# Altium integrated library Cats_and_Dogs_Schematics_ESE516.IntLib: 76 symbols (part 1 of 2)
Pins are listed as number, name and electrical type; pins without a type are passive.

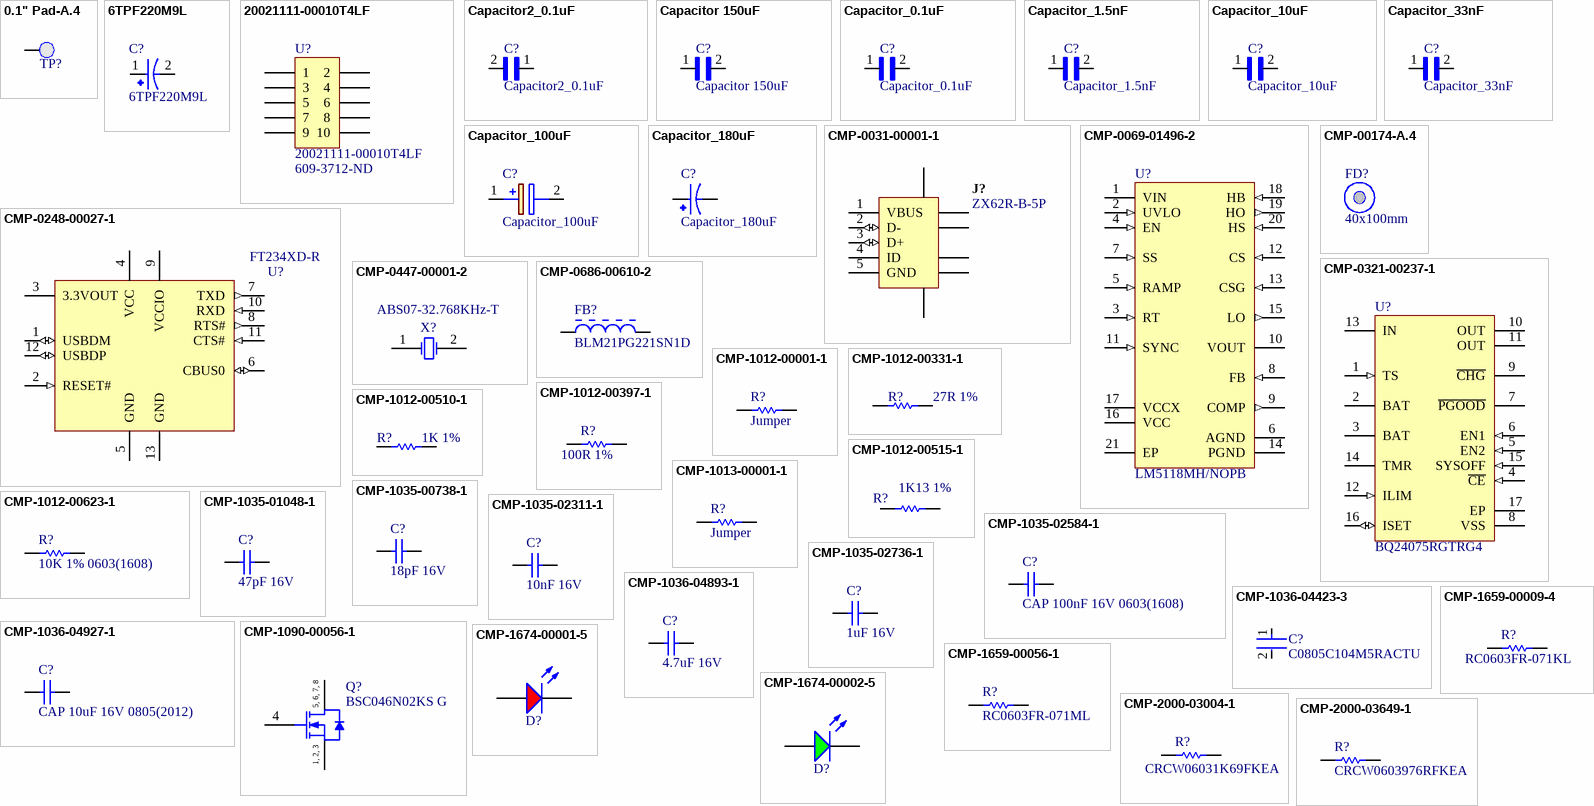
[diagram p0: symbols 0.1" Pad-A.4 to CMP-2000-03649-1]

## 0.1" Pad-A.4
designator TP?, comment 0.1" Pad  (value not drawn)  (no BOM)
footprint PCBComponent
pins: 1 PAD

## 6TPF220M9L
designator C?
MF: {'manufacturer': u'Panasonic'}; Value: *; Price: None; Availability: Unavailable; Package: None; MP: 6TPF220M9L
footprint CAP_6TPF220M9L
pins: 1, 2

## 20021111-00010T4LF
designator U?  Supplier Part Number 1: 609-3712-ND
CONN HEADER 10POS UNSHD VERT T/H; Manufacturer: Amphenol / FCI; Stack Height: 2.5 mm; Number of Positions / Contacts: 10; Brand: FCI; Pitch: 1.27 mm; Mounting Angle: Vertical; Current Rating: 10 A; Mating Post Length: 3.05 mm; Voltage Rating: 125 V; Manufacturer Part Number: 20021111-00010T4LF; Mounting Style: Through Hole; Product Category: Headers & Wire Housings; RoHS: Details; Series: Minitek; Product Type: Headers; Type: Unshrouded; Number of Positions: 10; Number of Rows: 2; Contact Plating: Gold; Housing Material: Plastic; Termination Style: Through Hole; Contact Material: Nickel; Packaging: Tube; Factory Pack Quantity: 93; Termination Post Length: 2.3 mm; ComponentLink1URL: https://datasheet.ciiva.com/1433/1079612-1433267.pdf; ComponentLink1Description: https://datasheet.ciiva.com/1433/1079612-1433267.pdf; ComponentLink2URL: https://datasheet.ciiva.com/409/20021111-409158.pdf; ComponentLink2Description: https://datasheet.ciiva.com/409/20021111-409158.pdf; ComponentLink3URL: https://datasheet.ciiva.com/5131/20021111-5131386.pdf; ComponentLink3Description: https://datasheet.ciiva.com/5131/20021111-5131386.pdf; ComponentLink4URL: https://datasheet.ciiva.com/9465/20021111-9465402.pdf; ComponentLink4Description: https://datasheet.ciiva.com/9465/20021111-9465402.pdf; Supplier 1: Digi-Key
footprint 20021111-00010T4LF (CONN HEADER 10POS UNSHD VERT T/H)
pins: 1, 2, 3, 4, 5, 6, 7, 8, 9, 10

## Capacitor2_0.1uF
designator C?
Cap Ceramic 0.1uF 16V X5R 10% SMD 0402 85°C Paper T/R; Manufacturer: KEMET; Manufacturer Part Number: C0402C104K4PACTU; Capacitance: 100nF; Dissipation Factor: 5%; Supplier 1: Digi-Key; Supplier Part Number 1: 399-C0402C104K4PAC7867TR-ND; RoHS: Yes; Category: Ceramic Capacitors; Stock 1: 2168149; Pricing 1: 10000=0.00873, 20000=0.00832 (USD); Mount: Surface Mount; Case/Package: 0402; Case Code (Metric): 1005; Case Code (Imperial): 0402; Contact Plating: Tin,Matte; Dielectric Material: Ceramic; Min Operating Temperature: -55°C; Max Operating Temperature: 85°C; Tolerance: 10%; Packaging: Tape and Reel; Voltage Rating: 16V; Package Quantity: 1; Voltage Rating (DC): 16V; Dielectric: X5R; Termination: SMD/SMT; Series: C; Construction: Flat; Length: 1mm; Width: 0.02inch; Height: 0.5mm; Thickness: 0.022inch; Depth: 0.5mm; Radiation Hardening: No; REACH SVHC: No SVHC; Lead Free: Lead Free; RoHS Compliant: Yes; ComponentLink1URL: https://datasheet.ciiva.com/26938/getdatasheetpartid-161478-26938210.pdf?src-supplier=Verical; ComponentLink1Description: https://datasheet.ciiva.com/26938/getdatasheetpartid-161478-26938210.pdf?src-supplier=Verical
footprint Capacitor_100nF
footprint Capacitor2_0.1uF
pins: 1, 2

## Capacitor 150uF
designator C?
Multilayer Ceramic Capacitor 150uF 4V 20% 1210 Emboss T/R; Manufacturer: Taiyo Yuden; Manufacturer Part Number: AMK325ABJ157MM-P; Supplier 1: Digi-Key; Supplier Part Number 1: 587-AMK325ABJ157MM-PCT-ND; RoHS: Yes; Category: Ceramic Capacitors; Stock 1: 2200; Pricing 1: 1=3.41000, 10=2.75600, 50=2.40540, 100=2.10470, 500=1.60356 (USD); RoHS Compliant: Yes
footprint Capacitor_150uF
pins: 1, 2

## Capacitor_0.1uF
designator C?
Cap Ceramic 0.1uF 25V X7R 5% SMD 0805 FlexiTerm 125°C Paper T/R; Manufacturer: Kyocera AVX; Manufacturer Part Number: 08053C104JAZ2A; Capacitance: 100nF; Supplier 1: Digi-Key; Supplier Part Number 1: 478-11877-1-ND; RoHS: Yes; Category: Ceramic Capacitors; Stock 1: 3816; Pricing 1: 1=0.37000, 10=0.25400, 50=0.17780, 100=0.15250, 500=0.11434, 1000=0.09656 (USD); Mount: Surface Mount; Case/Package: 0805; Number of Pins: 2; Case Code (Imperial): 0805; Case Code (Metric): 2012; Min Operating Temperature: -55°C; Max Operating Temperature: 125°C; Package Quantity: 4000; Voltage Rating: 25V; Voltage Rating (DC): 25V; Tolerance: 5%; Packaging: Tape and Reel; Dielectric: X7R; Termination: SMD/SMT; Features: Soft Termination; Series: FLEXITERM®; Construction: Flat; Length: 2.01mm; Width: 1.25mm; Height: 0.94mm; Thickness: 0.037inch; Depth: 1.25mm; RoHS Compliant: Yes; ComponentLink1URL: https://datasheet.ciiva.com/208/flexiterm-208638.pdf?src-supplier=Digi-Key; ComponentLink1Description: https://datasheet.ciiva.com/208/flexiterm-208638.pdf?src-supplier=Digi-Key; ComponentLink2URL: https://datasheet.ciiva.com/11504/flexiterm-11504238.pdf?src-supplier=Avnet; ComponentLink2Description: https://datasheet.ciiva.com/11504/flexiterm-11504238.pdf?src-supplier=Avnet; ComponentLink3URL: https://datasheet.ciiva.com/5423/cx7r-218113-5423549.pdf?src-supplier=Mouser; ComponentLink3Description: https://datasheet.ciiva.com/5423/cx7r-218113-5423549.pdf?src-supplier=Mouser
footprint Capacitor_0.1uF
pins: 1, 2

## Capacitor_1.5nF
designator C?
Manufacturer: TDK; Manufacturer Part Number: C2012C0G1H152J060AA; Dielectric Material: Ceramic; Capacitance: 1.5nF; Tolerance: 5%; Dielectric: C0G; Voltage Rating: 50V; Temperature Coefficient: 30ppm/°C; Supplier 1: Digi-Key; Supplier Part Number 1: 445-1331-1-ND; RoHS: Yes; Category: Ceramic Capacitors; Stock 1: 47415; Pricing 1: 1=0.19000, 10=0.13300, 50=0.07560, 100=0.06270, 500=0.04396, 1000=0.03639 (USD); Mount: Surface Mount; Case/Package: 0805; Case Code (Metric): 2012; Case Code (Imperial): 0805; Weight: 0.000194oz; Min Operating Temperature: -55°C; Max Operating Temperature: 125°C; Packaging: Tape and Reel; Voltage Rating (DC): 50V; Package Quantity: 1; Termination: SMD/SMT; Series: C; Construction: Flat; Voltage: 50V; Length: 2mm; Width: 0.049inch; Height: 0.6mm; Depth: 1.25mm; Thickness: 0.028inch; Radiation Hardening: No; REACH SVHC: No SVHC; Lead Free: Lead Free; RoHS Compliant: Yes; ComponentLink1URL: https://datasheet.ciiva.com/24217/c2012c0g1h152j060aa-264944-24217755.pdf?src-supplier=Mouser; ComponentLink1Description: https://datasheet.ciiva.com/24217/c2012c0g1h152j060aa-264944-24217755.pdf?src-supplier=Mouser; ComponentLink2URL: https://datasheet.ciiva.com/11788/0900766b80c1bb00-11788088.pdf?src-supplier=RSComponents; ComponentLink2Description: https://datasheet.ciiva.com/11788/0900766b80c1bb00-11788088.pdf?src-supplier=RSComponents; ComponentLink3URL: https://datasheet.ciiva.com/7151/1744655-7151856.pdf?src-supplier=Newark; ComponentLink3Description: https://datasheet.ciiva.com/7151/1744655-7151856.pdf?src-supplier=Newark; ComponentLink4URL: https://datasheet.ciiva.com/6250/tdkmlcccaprange-6250967.pdf?src-supplier=Digi-Key; ComponentLink4Description: https://datasheet.ciiva.com/6250/tdkmlcccaprange-6250967.pdf?src-supplier=Digi-Key; ComponentLink5URL: https://datasheet.ciiva.com/6250/tdkmlcccaprange-6250959.pdf?src-supplier=Digi-Key; ComponentLink5Description: https://datasheet.ciiva.com/6250/tdkmlcccaprange-6250959.pdf?src-supplier=Digi-Key; ComponentLink6URL: https://datasheet.ciiva.com/49048/1571323-49048791.pdf?src-supplier=Element14; ComponentLink6Description: https://datasheet.ciiva.com/49048/1571323-49048791.pdf?src-supplier=Element14; ComponentLink7URL: https://datasheet.ciiva.com/16498/e412-c-16498790.pdf?src-supplier=Future+Electronics; ComponentLink7Description: https://datasheet.ciiva.com/16498/e412-c-16498790.pdf?src-supplier=Future+Electronics; ComponentLink8URL: https://datasheet.ciiva.com/17487/e412-c-17487399.pdf?src-supplier=Avnet+Europe; ComponentLink8Description: https://datasheet.ciiva.com/17487/e412-c-17487399.pdf?src-supplier=Avnet+Europe
footprint Capacitor_1.5nF
pins: 1, 2

## Capacitor_10uF
designator C?
0805 35 V 10 uF ±10% Tolerance X5R Multilayer Ceramic Capacitor
footprint Capacitor_10uF
pins: 1, 2

## Capacitor_33nF
designator C?
TDK - CGA4J2C0G1H333J125AA. - CAP 0.033UF 50V C0G +/-5% SMD 0805; Capacitance: 33nF; Tolerance: 5%; Supplier 1: Digi-Key; Supplier Part Number 1: 445-6950-1-ND; Manufacturer: TDK; Manufacturer Part Number: CGA4J2C0G1H333J125AA; RoHS: Yes; Category: Ceramic Capacitors; Stock 1: 171034; Pricing 1: 1=0.36000, 10=0.24800, 50=0.17320, 100=0.14850, 500=0.11138, 1000=0.09405 (USD); Mount: Surface Mount; Case/Package: 0805; Case Code (Metric): 2012; Case Code (Imperial): 0805; Weight: 0.000194oz; Min Operating Temperature: -55°C; Max Operating Temperature: 125°C; Voltage Rating: 50V; Packaging: Tape and Reel; Voltage Rating (DC): 50V; Dielectric: C0G; Termination: SMD/SMT; Series: CGA; Package Quantity: 1; Resistor Type: Ceramic; Length: 2mm; Width: 0.049inch; Height: 1.25mm; Thickness: 0.057inch; Depth: 1.25mm; Ratings: AEC-Q200; Lead Free: Lead Free; REACH SVHC: No SVHC; RoHS Compliant: Yes; ComponentLink1URL: https://datasheet.ciiva.com/24217/cga4j2c0g1h333j125aa-265991-24217624.pdf?src-supplier=Mouser; ComponentLink1Description: https://datasheet.ciiva.com/24217/cga4j2c0g1h333j125aa-265991-24217624.pdf?src-supplier=Mouser; ComponentLink2URL: https://datasheet.ciiva.com/22704/1807242-22704638.pdf?src-supplier=Element14; ComponentLink2Description: https://datasheet.ciiva.com/22704/1807242-22704638.pdf?src-supplier=Element14
footprint Capacitor_33nF
pins: 1, 2

## Capacitor_100uF
designator C?
Cap Tant Solid 100uF 10V D CASE 20% (7.3 X 4.3 X 2.8mm) Inward L SMD 7343-31 0.1 Ohm 125C T/R; Manufacturer: Vishay Sprague; Manufacturer Part Number: 593D107X0010D2TE3; ESR (Equivalent Series Resistance): 100mR; Ripple Current: 740mA; Leakage Current: 10uA; Polarity: Polar; Dissipation Factor: 6%; Supplier 1: Digi-Key; Supplier Part Number 1: 718-1100-1-ND; RoHS: Yes; Category: Tantalum Capacitors; Stock 1: 108; Pricing 1: 1=0.90000, 10=0.68800, 50=0.57140, 100=0.49200 (USD); Mount: Surface Mount,PCB; Case/Package: 2917; Number of Pins: 2; Case Code (Metric): 7343; Case Code (Imperial): 2917; Weight: 0.023634oz; Min Operating Temperature: -55°C; Max Operating Temperature: 125°C; Capacitance: 100uF; Tolerance: 20%; Voltage Rating: 10V; Package Quantity: 1; Packaging: Tape and Reel; Voltage Rating (DC): 10V; Termination: SMD/SMT; Voltage: 10V; Features: General Purpose; Series: TANTAMOUNT® 593D; Construction: Flat; Length: 7.3mm; Width: 0.169inch; Height: 3.1mm; Depth: 4.3mm; Height - Seated (Max): 0.122inch; Radiation Hardening: No; REACH SVHC: Unknown; Lead Free: Lead Free; RoHS Compliant: Yes; ComponentLink1URL: https://datasheet.ciiva.com/1463/1598570-1463805.pdf?src-supplier=Element14; ComponentLink1Description: https://datasheet.ciiva.com/1463/1598570-1463805.pdf?src-supplier=Element14; ComponentLink2URL: https://datasheet.ciiva.com/260/593d-260241.pdf?src-supplier=Digi-Key; ComponentLink2Description: https://datasheet.ciiva.com/260/593d-260241.pdf?src-supplier=Digi-Key; ComponentLink3URL: https://datasheet.ciiva.com/260/593d-260242.pdf?src-supplier=Digi-Key; ComponentLink3Description: https://datasheet.ciiva.com/260/593d-260242.pdf?src-supplier=Digi-Key; ComponentLink4URL: https://datasheet.ciiva.com/260/593d-260243.pdf?src-supplier=Digi-Key; ComponentLink4Description: https://datasheet.ciiva.com/260/593d-260243.pdf?src-supplier=Digi-Key; ComponentLink5URL: https://datasheet.ciiva.com/3004/593d-3004057.pdf?src-supplier=Avnet; ComponentLink5Description: https://datasheet.ciiva.com/3004/593d-3004057.pdf?src-supplier=Avnet; ComponentLink6URL: https://datasheet.ciiva.com/12882/593d-239975-12882744.pdf?src-supplier=Mouser; ComponentLink6Description: https://datasheet.ciiva.com/12882/593d-239975-12882744.pdf?src-supplier=Mouser; ComponentLink7URL: https://datasheet.ciiva.com/22644/593d-22644537.pdf?src-supplier=Element14; ComponentLink7Description: https://datasheet.ciiva.com/22644/593d-22644537.pdf?src-supplier=Element14; ComponentLink8URL: https://datasheet.ciiva.com/46382/1910926-46382106.pdf?src-supplier=Element14; ComponentLink8Description: https://datasheet.ciiva.com/46382/1910926-46382106.pdf?src-supplier=Element14; ComponentLink9URL: https://datasheet.ciiva.com/15163/getdatasheetpartid-88232-15163238.pdf?src-supplier=Verical; ComponentLink9Description: https://datasheet.ciiva.com/15163/getdatasheetpartid-88232-15163238.pdf?src-supplier=Verical; ComponentLink10URL: https://datasheet.ciiva.com/16632/593d-16632317.pdf?src-supplier=Avnet+Europe; ComponentLink10Description: https://datasheet.ciiva.com/16632/593d-16632317.pdf?src-supplier=Avnet+Europe
footprint Capacitor_100uF
pins: 1 +, 2 -

## Capacitor_180uF
designator C?
Cap Aluminum Polymer 180uF 20VDC 20%( 8 X 6.9mm) SMD 0.025 Ohm 3200mA 5000h 105C T/R; Manufacturer: Panasonic; Manufacturer Part Number: 20SVPF180M; Ripple Current: 3.2A; Voltage Rating: 20V; ESR (Equivalent Series Resistance): 25mR; Polarity: Polar; Leakage Current: 720uA; Life (Hours): 5000Hour; Dissipation Factor: 12%; Supplier 1: Digi-Key; Supplier Part Number 1: P16499CT-ND; RoHS: Yes; Category: Aluminum Electrolytic Capacitors; Pricing 1: 1=1.64000, 10=1.29500, 50=1.12220, 100=0.97120, 500=0.73376 (USD); Mount: Surface Mount; Case/Package: Radial; Number of Pins: 7; Min Operating Temperature: -55°C; Max Operating Temperature: 105°C; Capacitance: 180uF; Tolerance: 20%; Ripple Current (AC): 3.2A; Packaging: Tape and Reel; Voltage Rating (DC): 20V; Package Quantity: 1000; Termination: SMD/SMT; Voltage: 20V; Diameter: 8mm; Length: 6.9mm; Height: 6.9mm; Height - Seated (Max): 0.276inch; REACH SVHC: No SVHC; Lead Free: Lead Free; RoHS Compliant: Yes; ComponentLink1URL: https://datasheet.ciiva.com/24071/svpf-os-262415-24071279.pdf?src-supplier=Mouser; ComponentLink1Description: https://datasheet.ciiva.com/24071/svpf-os-262415-24071279.pdf?src-supplier=Mouser; ComponentLink2URL: https://datasheet.ciiva.com/22746/1734360-22746207.pdf?src-supplier=Element14; ComponentLink2Description: https://datasheet.ciiva.com/22746/1734360-22746207.pdf?src-supplier=Element14; ComponentLink3URL: https://datasheet.ciiva.com/24416/svpf-series-datasheet-24416538.pdf?src-supplier=Onlinecomponents.com; ComponentLink3Description: https://datasheet.ciiva.com/24416/svpf-series-datasheet-24416538.pdf?src-supplier=Onlinecomponents.com
footprint Capacitor_180uF
pins: 1, 2

## CMP-0031-00001-1
designator J?, comment ZX62R-B-5P
Connector; USBMicro-B,Reverse type, SMT; 5 Position; Right Angle; Manufacturer: Hirose; DatasheetVersion: 08/2010; Operating Temperature: -30 to 85 degC; Mounting Technology: Surface Mount; PartNumber: ZX62R-B-5P; PackageReference: ZX62R-B-5P; ComponentLink2URL: http://www.hirose.co.jp/cataloge_hp/e24200011.pdf; ComponentLink1URL: http://www.hirose.com/â€Ž; ComponentLink2Description: Datasheet; PackageDescription: 5-Pin USB Micro-B R/A Connector; ComponentLink1Description: Manufacturer URL; Manufacturer Part Number: ZX62R-B-5P
footprint HIRO-ZX62R-B-5P_V (USB Micro-B R/A Connector)
pins: 1 VBUS (power), 2 D- (io), 3 D+ (io), 4 ID, 5 GND (power), 6 SHLD, 7 SHLD, 8 SHLD, 9 SHLD, 10 SHLD, 11 SHLD

## CMP-0069-01496-2
designator U?, comment LM5118MH/NOPB
Wide Voltage Range Buck-Boost Controller, 20-pin TSSOP-EP, Pb-Free; Manufacturer: National Semiconductor; Manufacturer: TI National Semiconductor; CompType: Switcher; PackageTopMarking: NSUZXYTT*LM5118*MH; PowerWise: Y; PackageVersion: revC, Jul-2006; ComponentLink3Description: MXA20A Package Page; RoHS: Y; ComponentLink1Description: LM5118 Datasheet; PackageDescription: Molded TSSOP, Jedec, 6.5 x 4.4 x 0.9mm Body, 20 Lead, 0.65mm Pitch, Exposed Pad; ComponentLink1URL: http://www.national.com/ds/LM/LM5118.pdf; ComponentLink2URL: http://www.national.com/pf/LM/LM5118.html; Code_JEDEC: MO-153-ACT; PinCount: 20; RevisionNote: Component URLs added; DatasheetVersion: Jul-2009; ComponentLink3URL: http://www.national.com/packaging/folders/mxa20a.html; ComponentLink2Description: LM5118 Web Page; PackageReference: MXA20A; Manufacturer Part Number: LM5118MH/NOPB
footprint MXA20A_L (TSOP, 20-Leads, Body 6.5x4.4mm, Pitch 0.65mm, Thermal Pad, IPC High Density)
footprint MXA20A_N (TSOP, 20-Leads, Body 6.5x4.4mm, Pitch 0.65mm, Thermal Pad, IPC Medium Density)
footprint MXA20A_M (TSOP, 20-Leads, Body 6.5x4.4mm, Pitch 0.65mm, Thermal Pad, IPC Low Density)
pins: 1 VIN (power), 2 UVLO (in), 3 RT (in), 4 EN (in), 5 RAMP (in), 6 AGND (power), 7 SS (in), 8 FB (in), 9 COMP (out), 10 VOUT (power), 11 SYNC (in), 12 CS (in), 13 CSG (in), 14 PGND (power), 15 LO (out), 16 VCC (power), 17 VCCX (power), 18 HB (in), 19 HO (out), 20 HS (in), 21 EP (power)

## CMP-00174-A.4
designator FD?, comment 40x100mm  (no BOM)
Fiducial 40x100mm
footprint Fiducial_FT

## CMP-0248-00027-1
designator U?, comment FT234XD-R
FT234XD USB to BASIC UART IC, -40 to +85 degC, 12-Pin DFN, Pb-Free, Tape and Reel; Manufacturer: FTDI; PackageReference: DFN-12; PackageVersion: Feb-13; DatasheetVersion: ver 1.1, Feb-2013; ComponentLink1URL: http://www.ftdichip.com/; PartNumber: FT234XD-R; ComponentLink2URL: http://www.ftdichip.com/Support/Documents/DataSheets/ICs/DS_FT234XD.pdf; ComponentLink1Description: Manufacturer URL; PackageDescription: 12-Pin Dual Flat No-Lead, 3 x 3 mm Body, 0.45 mm Pitch, Exposed Pad; ComponentLink2Description: Datasheet; Manufacturer Part Number: FT234XD-R
footprint DFN-12_V (SON, 12-Leads, Body 3x3mm, Pitch 0.45mm, Thermal Pad 2.5x1.6mm)
pins: 1 USBDM (io) "USB Data Signal Minus.", 2 RESET# (in) "Reset input (active low).", 3 3.3VOUT (power) "3.3V output at 50mA. May be used to power VCCIO. When VCC is 3.3V; pin 3 is an input pin and should be connected to pin 4.", 4 VCC (power) "5 V (or 3.3V) supply to IC", 5 GND (power) "0V Ground input.", 6 CBUS0 (io) "Configurable CBUS I/O Pin. Function of this pin is configured in the device MTP memory. The default configuration is TXDEN.", 7 TXD (out) "Transmit Asynchronous Data Output.", 8 RTS# (out) "Request to Send Control Output / Handshake Signal.", 9 VCCIO (power) "1.8V - 3.3V supply for the IO cells", 10 RXD (in) "Receiving Asynchronous Data Input.", 11 CTS# (in) "Clear To Send Control Input / Handshake Signal.", 12 USBDP (io) "USB Data Signal Plus.", 13 GND (power) "0V Ground input."

## CMP-0321-00237-1
designator U?, comment BQ24075RGTRG4
USB-Friendly Li-Ion Battery Charger and Power-Path Management IC, Vout 5.5 V, 4.3 V, -40 to 85 degC, 16-pin QFN (RGT), Green (RoHS & no Sb/Br); Manufacturer: Texas Instruments; Li-Ion: N; SubFamily: Battery Charge Management; Vin(Min)(V): 4.3; ComponentLink1URL: http://www.ti.com/general/docs/lit/getliterature.tsp?genericPartNumber=BQ24075&fileType=pdf; Over Voltage Protection: N; PackageDescription: 16-Pin Plastic Quad Flat No-Lead, 3 x 3 mm Body, 0.5 mm Pitch, 1.7 x 1.7 mm Exposed Pad; NiMH: N; Li-Polymer: N; Eco-Plan: Green (RoHS & no Sb/Br); Code_JEDEC: MO-220; Lead Acid: N; PartNumber: BQ24075RGTRG4; ComponentLink1Description: Datasheet; Mounting Technology: Surface Mount; PackageVersion: revH, Oct-2011; PackageReference: RGT16-1700X1700TP; NiCd: N; DatasheetVersion: SLUS810G; Manufacturer Part Number: BQ24075RGTRG4
footprint RGT16-1700X1700TP (QFN, 16-Leads, Body 3x3mm, Pitch 0.5mm, Thermal Pad 1.7x1.7mm, TI Recommended)
pins: 1 TS (in) "External NTC Thermistor Input. Connect the TS input to the NTC thermistor in the battery pack. TS monitors a 10kohm NTC thermistor. For applications that do not utilize the TS function, connect a 10kohm fixed resistor from (See Datasheet)", 2 BAT (power) "Charge Power Stage Output and Battery Voltage Sense Input. Connect BAT to the positive terminal of the battery. Bypass BAT to VSS with a 4.7 uF to 47 uF ceramic capacitor.", 3 BAT (power) "Charge Power Stage Output and Battery Voltage Sense Input. Connect BAT to the positive terminal of the battery. Bypass BAT to VSS with a 4.7 uF to 47 uF ceramic capacitor.", 4 ~{CE} (in) "Charge Enable Active-Low Input. Connect C\E\ to a high logic level to place the battery charger in standby mode. In standby mode, OUT is active and battery supplement mode is still available. Connect C\E\ to a low logic (See Datasheet)", 5 EN2 (in) "Input Current Limit Configuration Inputs. Use EN2 control the maximum input current and enable USB compliance. See Table 2 for the description of the operation states. EN2 are internally pulled down with ?285 kohm. Do not (See Datasheet)", 6 EN1 (in) "Input Current Limit Configuration Inputs. Use EN1 control the maximum input current and enable USB compliance. See Table 2 for the description of the operation states. EN1 are internally pulled down with ?285 kohm. Do not (See Datasheet)", 7 ~{PGOOD} (hiz) "Open-drain Power Good Status Indication Output. P\G\O\O\D\ pulls to VSS when a valid input source is detected. P\G\O\O\D\ is high-impedance when the input power is not within specified limits. Connect P\G\O\O\D\ to the (See Datasheet)", 8 VSS (power) "Ground. Connect to the thermal pad and to the ground rail of the circuit.", 9 ~{CHG} (hiz) "Open-Drain Charging Status Indication Output. C\H\G\ pulls to VSS when the battery is charging. C\H\G\ is high impedance when charging is complete and when charger is disabled. Connect C\H\G\ to the desired logic voltage (See Datasheet)", 10 OUT (power) "System Supply Output. OUT provides a regulated output when the input is below the OVP threshold and above the regulation voltage. When the input is out of the operation range, OUT is connected to VBAT except when SYSOFF is (See Datasheet)", 11 OUT (power) "System Supply Output. OUT provides a regulated output when the input is below the OVP threshold and above the regulation voltage. When the input is out of the operation range, OUT is connected to VBAT except when SYSOFF is (See Datasheet)", 12 ILIM (in) "Adjustable Current Limit Programming Input. Connect a 1100 ohm to 8 kohm resistor from ILIM to VSS to program the maximum input current (EN2=1, EN1=0). The input current includes the system load and the battery charge (See Datasheet)", 13 IN (power) "Input Power Connection. Connect IN to the external DC supply (AC adapter or USB port). The input operating range is 4.35V to 6.6V (bq24072, bq24073, bq24075, and bq24079) or 4.35V to 10.5V (bq23074). The input can accept (See Datasheet)", 14 TMR "Timer Programming Input. TMR controls the pre-charge and fast-charge safety timers. Connect TMR to VSS to disable all safety timers. Connect a 18 kohm to 72 kohm resistor between TMR and VSS to program the timers a desired (See Datasheet)", 15 SYSOFF (in) "System Enable Input. Connect SYSOFF high to turn off the FET connecting the battery to the system output. When an adapter is connected, charging is also disabled. Connect SYSOFF low for normal operation. SYSOFF is internally (See Datasheet)", 16 ISET (io) "Fast Charge Current Programming Input. Connect a 590 ohm to 3 kohm resistor from ISET to VSS to program the fast charge current level. Charging is disabled if ISET is left unconnected. While charging, the voltage at ISET (See Datasheet)", 17 EP (power) "There is an internal electrical connection between the exposed thermal pad and the VSS pin of the device. The thermal pad must be connected to the same potential as the VSS pin on the printed circuit board. Do not use the (See Datasheet)"

## CMP-0447-00001-2
designator X?, comment ABS07-32.768KHz-T
Crystal, 32.768 kHz, 12.5 pF, -40 to 85 degC, SMD Low Profile 3.2 x 1.5 x 0.9 mm, Tape and Reel; Manufacturer: Abracon; Q Value (Type): 30000; Operation Mode: Flexural Mode (Tuning Fork); Shunt Capacitance (C0): 0.9 to 1.2 pF; Load Capacitance (CL): 12.5 pF; Frequency Tolerance @+25degC: +/- 20 ppm; Drive Level (Type): 0.1 uW; Equivalent Series Resistance (R1): 70 Kohm; Insulation Resistance (Min): 500 Mohm; ComponentLink3URL: http://www.abracon.com/Resonators/ABS07.pdf; PackageDescription: 2-Pin Hand Drawn, Body 3.2x1.5mm, Pitch 2.5mm; Operating Temperature: -40 to 85 degC; ComponentLink2URL: http://www.abracon.com/Resonators/ABS07.pdf; PackageReference: ABS07-2; ComponentLink3Description: Package Specification; ComponentLink1Description: Manufacturer URL; DatasheetVersion: 04.03.13; Mounting Technology: Surface Mount; ComponentLink2Description: Datasheet; ComponentLink1URL: http://www.abracon.com/; PartNumber: ABS07-32.768KHz-T; Packing: Tape and Reel; Frequency: 32.768 kHz; Manufacturer Part Number: ABS07-32.768KHZ-T
footprint ABRA-ABS07-2_V (Hand Drawn, 2-Leads, Body 3.2x1.5mm, Pitch 2.5mm)
pins: 1 X1, 2 X2

## CMP-0686-00610-2
designator FB?, comment BLM21PG221SN1D
Chip Ferrite Bead for Power Lines, 220 Ohm, 2000 mA, -55 to 125 degC, 2 x 1.25 x 1.05 mm SMD, Tape and Reel; Manufacturer: Murata; DC Resistance: 0.045 Ohm Max.; Impedance (at 100 MHz): 220 Ohm +/- 25%; Rated Current: 2000 mA; PartNumber: BLM21PG221SN1D; Mounting Technology: Surface Mount; DatasheetVersion: 08/2013; ComponentLink3URL: http://www.murata.com/products/catalog/pdf/c31e.pdf; ComponentLink1URL: http://www.murata.com/; ComponentLink1Description: Manufacturer URL; ComponentLink2URL: http://www.murata.com/products/catalog/pdf/c31e.pdf; PackageDescription: 2-Pin Chip, Body 2 x 1.25 mm; ComponentLink3Description: Package Specification; Operating Temperature Range: -55 to 125 degC; Packing: Tape and Reel; ComponentLink2Description: Datasheet; PackageReference: BLM21_H1050-2; Manufacturer Part Number: BLM21PG221SN1D
footprint MURA-BLM21-B20-CHIP-2_V1 (Chip Ferrite Bead, 2-Leads, Body 2x1.25mm, Height 1.05mm, 18um Land Pad Thickness, 2A Rated Current)
footprint MURA-BLM21-B20-CHIP-2_V2 (Chip Ferrite Bead, 2-Leads, Body 2x1.25mm, Height 1.05mm, 35/70um Land Pad Thickness, 2A Rated Current)
pins: 1, 2

## CMP-1012-00001-1
designator R?, comment Jumper
Jumper 0603 (1608 Metric); Manufacturer: Vishay Dale; Manufacturer Part Number: CRCW06030000Z0EC; Manufacturer: Yageo; Manufacturer Part Number: RC0603JR-070RL; Manufacturer: Vishay; Manufacturer Part Number: CRCW0603-0000Z0EA; Manufacturer Part Number: CRCW06030000Z0TA; Manufacturer: Bourns; Manufacturer Part Number: CR0603-J/-000ELF; Manufacturer Part Number: CRCW06030000Z0EB; Manufacturer: Panasonic; Manufacturer Part Number: ERJ-3GEY0R00V; Case-Metric: 1608; Value: 0.00 Ohm; Power: None; Case-EIA: 0603; Technology: SMT; Tolerance: None
footprint RESC0603(1608)_N (Chip Resistor, Body 1.6x0.8mm, IPC Medium Density)
footprint RESC0603(1608)_L (Chip Resistor, Body 1.6x0.8mm, IPC High Density)
footprint RESC0603(1608)_M (Chip Resistor, Body 1.6x0.8mm, IPC Low Density)
pins: 1, 2
1 alternate drawing of the same symbol

## CMP-1012-00331-1
designator R?, comment 27R 1%
27R 0.1W 1% 0603 (1608 Metric)  SMD; Manufacturer: Vishay; Manufacturer Part Number: CRCW060327R0FKEB; Manufacturer: Yageo; Manufacturer Part Number: RC0603FR-0727RL; Manufacturer: Bourns; Manufacturer Part Number: CR0603-FX-27R0ELF; Manufacturer: Vishay Dale; Manufacturer Part Number: CRCW060327R0FKTA; Manufacturer: Panasonic; Manufacturer Part Number: ERJ-3EKF27R0V; Manufacturer Part Number: CRCW060327R0FKEA; Case-EIA: 0603; Value: 27.00 Ohm; Case-Metric: 1608; Technology: SMT; Tolerance: 1 %; Power: 0.1 W
footprint RESC0603(1608)_N (Chip Resistor, Body 1.6x0.8mm, IPC Medium Density)
footprint RESC0603(1608)_M (Chip Resistor, Body 1.6x0.8mm, IPC Low Density)
footprint RESC0603(1608)_L (Chip Resistor, Body 1.6x0.8mm, IPC High Density)
pins: 1, 2
1 alternate drawing of the same symbol

## CMP-1012-00397-1
designator R?, comment 100R 1%
100R 0.1W 1% 0603 (1608 Metric)  SMD; Manufacturer: Vishay Dale; Manufacturer Part Number: CRCW0603100RFKTB; Manufacturer Part Number: CRCW0603100RFKTA; Manufacturer: Bourns; Manufacturer Part Number: CR0603-FX-1000ELF; Manufacturer Part Number: CRCW0603100RFKTC; Manufacturer Part Number: CRCW0603100RFKEC; Manufacturer Part Number: CRCW0603100RFKEA; Manufacturer Part Number: CRCW0603100RFKEB; Manufacturer: Panasonic; Manufacturer Part Number: ERJ3EKF1000V; Manufacturer: Yageo; Manufacturer Part Number: RC0603FR-07100RL; Value: 100.00 Ohm; Case-EIA: 0603; Case-Metric: 1608; Technology: SMT; Tolerance: 1 %; Power: 0.1 W
footprint RESC0603(1608)_M (Chip Resistor, Body 1.6x0.8mm, IPC Low Density)
footprint RESC0603(1608)_L (Chip Resistor, Body 1.6x0.8mm, IPC High Density)
footprint RESC0603(1608)_N (Chip Resistor, Body 1.6x0.8mm, IPC Medium Density)
pins: 1, 2
1 alternate drawing of the same symbol

## CMP-1012-00510-1
designator R?, comment 1K 1%
1K 0.1W 1% 0603 (1608 Metric)  SMD; Manufacturer: Vishay Dale; Manufacturer Part Number: CRCW06031K00FKEB; Manufacturer Part Number: CRCW06031K00FKTA; Manufacturer: Yageo; Manufacturer Part Number: RC0603FR-071KL; Manufacturer Part Number: CRCW06031K00FKEC; Manufacturer Part Number: CRCW06031K00FKTB; Manufacturer: Bourns; Manufacturer Part Number: CR0603-FX-1001ELF; Manufacturer: Panasonic; Manufacturer Part Number: ERJ3EKF1001V; Manufacturer Part Number: CRCW06031K00FKEA; Case-Metric: 1608; Case-EIA: 0603; Value: 1000.00 Ohm; Technology: SMT; Tolerance: 1 %; Power: 0.1 W
footprint RESC0603(1608)_M (Chip Resistor, Body 1.6x0.8mm, IPC Low Density)
footprint RESC0603(1608)_N (Chip Resistor, Body 1.6x0.8mm, IPC Medium Density)
footprint RESC0603(1608)_L (Chip Resistor, Body 1.6x0.8mm, IPC High Density)
pins: 1, 2
1 alternate drawing of the same symbol

## CMP-1012-00515-1
designator R?, comment 1K13 1%
1K13 0.1W 1% 0603 (1608 Metric)  SMD; Manufacturer: Vishay Dale; Manufacturer Part Number: CRCW06031K13FKTA; Manufacturer Part Number: CRCW06031K13FKTB; Manufacturer: Yageo; Manufacturer Part Number: RC0603FR-071K13L; Manufacturer: Bourns; Manufacturer Part Number: CR0603-FX-1131ELF; Manufacturer: Vishay; Manufacturer Part Number: CRCW06031K13FKEA; Manufacturer: Vishay Intertechnology; Manufacturer Part Number: CRCW06031K13FKEB; Manufacturer: Panasonic; Manufacturer Part Number: ERJ-3EKF1131V; Value: 1130.00 Ohm; Case-EIA: 0603; Case-Metric: 1608; Power: 0.1 W; Tolerance: 1 %; Technology: SMT
footprint RESC0603(1608)_L (Chip Resistor, Body 1.6x0.8mm, IPC High Density)
footprint RESC0603(1608)_M (Chip Resistor, Body 1.6x0.8mm, IPC Low Density)
footprint RESC0603(1608)_N (Chip Resistor, Body 1.6x0.8mm, IPC Medium Density)
pins: 1, 2
1 alternate drawing of the same symbol

## CMP-1012-00623-1
designator R?, comment 10K 1% 0603(1608)
10K 0.1W 1% 0603 (1608 Metric)  SMD; Manufacturer: Panasonic; Manufacturer Part Number: ERJ-3EKF1002V; Manufacturer: Vishay Dale; Manufacturer Part Number: CRCW060310K0FKTC; Manufacturer: Vishay; Manufacturer Part Number: CRCW060310K0FKEA; Manufacturer Part Number: CRCW060310K0FKTA; Manufacturer Part Number: CRCW060310K0FKEC; Manufacturer: Yageo; Manufacturer Part Number: RC0603FR-0710KL; Manufacturer Part Number: CRCW060310K0FKEB; Manufacturer: Bourns; Manufacturer Part Number: CR0603-FX-1002ELF; Manufacturer Part Number: CRCW060310K0FKTB; Value: 10000.00 Ohm; Case-EIA: 0603; Case-Metric: 1608; Power: 0.1 W; Tolerance: 1 %; Technology: SMT
footprint RESC0603(1608)_N (Chip Resistor, Body 1.6x0.8mm, IPC Medium Density)
footprint RESC0603(1608)_L (Chip Resistor, Body 1.6x0.8mm, IPC High Density)
footprint RESC0603(1608)_M (Chip Resistor, Body 1.6x0.8mm, IPC Low Density)
pins: 1, 2
1 alternate drawing of the same symbol

## CMP-1013-00001-1
designator R?, comment Jumper
Jumper 0805 (2012 Metric); Manufacturer: Vishay; Manufacturer Part Number: CRCW08050000Z0TA; Manufacturer: Vishay Dale; Manufacturer Part Number: CRCW08050000Z0EC; Manufacturer: Panasonic; Manufacturer Part Number: ERJ-6GEY0R00V; Manufacturer: Rohm; Manufacturer Part Number: MCR10EZPJ000; Manufacturer Part Number: CRCW08050000Z0EB; Manufacturer: Yageo; Manufacturer Part Number: RC0805JR-070RL; Manufacturer Part Number: CRCW08050000Z0EA; Manufacturer: Bourns; Manufacturer Part Number: CR0805-J/-000ELF; Case-EIA: 0805; Value: 0.00 Ohm; Tolerance: None; Case-Metric: 2012; Technology: SMT; Power: None
footprint RESC0805(2012)_N (Chip Resistor, Body 2.0x1.3mm, IPC Medium Density)
footprint RESC0805(2012)_M (Chip Resistor, Body 2.0x1.3mm, IPC Low Density)
footprint RESC0805(2012)_L (Chip Resistor, Body 2.0x1.3mm, IPC High Density)
pins: 1, 2
1 alternate drawing of the same symbol

## CMP-1035-00738-1
designator C?, comment 18pF 16V
CAP 18pF 16V ±5% 0603 (1608 Metric) Thickness 1mm SMD; Manufacturer: Kyocera AVX; Manufacturer Part Number: 0603YA180JAT2A; Manufacturer: Vishay Vitramon; Manufacturer Part Number: VJ0603A180JXJCW1BC; Manufacturer: KEMET; Manufacturer Part Number: C0603C180J4GACTU; Manufacturer Part Number: C0603C180J4GAC; Manufacturer Part Number: VJ0603A180JXJPW1BC; Tolerance: Â±5%; Case-EIA: 0603; Case-Metric: 1608; Max Thickness: 1 mm; Rated Voltage: 16 V; Value: 18pF; Technology: SMT
footprint CAPC0603(1608)100_N (Chip Capacitor, Body 1.6x0.8mm, Height 1.0mm, IPC Medium Density)
footprint CAPC0603(1608)100_M (Chip Capacitor, Body 1.6x0.8mm, Height 1.0mm, IPC Low Density)
footprint CAPC0603(1608)100_L (Chip Capacitor, Body 1.6x0.8mm, Height 1.0mm, IPC High Density)
pins: 1, 2
1 alternate drawing of the same symbol

## CMP-1035-01048-1
designator C?, comment 47pF 16V
CAP 47pF 16V ±0.5pF 0603 (1608 Metric) Thickness 1mm SMD; Manufacturer: KEMET; Manufacturer Part Number: C0603C470D4GAC; Manufacturer Part Number: C0603C470D4GACTU; Case-EIA: 0603; Case-Metric: 1608; Tolerance: Â±0.5pF; Technology: SMT; Value: 47pF; Rated Voltage: 16 V; Max Thickness: 1 mm
footprint CAPC0603(1608)100_L (Chip Capacitor, Body 1.6x0.8mm, Height 1.0mm, IPC High Density)
footprint CAPC0603(1608)100_N (Chip Capacitor, Body 1.6x0.8mm, Height 1.0mm, IPC Medium Density)
footprint CAPC0603(1608)100_M (Chip Capacitor, Body 1.6x0.8mm, Height 1.0mm, IPC Low Density)
pins: 1, 2
1 alternate drawing of the same symbol

## CMP-1035-02311-1
designator C?, comment 10nF 16V
CAP 10nF 16V ±10% 0603 (1608 Metric) Thickness 1mm SMD; Manufacturer: KEMET; Manufacturer Part Number: C0603C103K4RACTU; Manufacturer Part Number: C0603C103K4RACTM; Manufacturer: Vishay Vitramon; Manufacturer Part Number: VJ0603Y103KXJPW1BC; Manufacturer Part Number: VJ0603Y103KXJAP; Manufacturer Part Number: VJ0603Y103KXJAC; Manufacturer Part Number: C0603C103K4GAC; Manufacturer Part Number: VJ0603Y103KXJCW1BC; Manufacturer: Vishay; Manufacturer Part Number: VJ0603Y103KNJAO; Manufacturer Part Number: C0603C103K4RAC; Manufacturer: Yageo; Manufacturer Part Number: CC0603KRX7R7BB103; Case-EIA: 0603; Case-Metric: 1608; Tolerance: Â±10%; Rated Voltage: 16 V; Value: 10nF; Max Thickness: 1 mm; Technology: SMT
footprint CAPC0603(1608)100_L (Chip Capacitor, Body 1.6x0.8mm, Height 1.0mm, IPC High Density)
footprint CAPC0603(1608)100_M (Chip Capacitor, Body 1.6x0.8mm, Height 1.0mm, IPC Low Density)
footprint CAPC0603(1608)100_N (Chip Capacitor, Body 1.6x0.8mm, Height 1.0mm, IPC Medium Density)
pins: 1, 2
1 alternate drawing of the same symbol

## CMP-1035-02584-1
designator C?, comment CAP 100nF 16V 0603(1608)
CAP 100nF 16V ±10% 0603 (1608 Metric) Thickness 1mm SMD; Manufacturer: TDK; Manufacturer Part Number: C1608X7R1C104K; Manufacturer: Vishay; Manufacturer Part Number: VJ0603Y104KXJCW1BC; Manufacturer: Kyocera AVX; Manufacturer Part Number: 0603YC104KAT7A; Manufacturer Part Number: 0603YC104KAT9A; Manufacturer: Vishay Vitramon; Manufacturer Part Number: VJ0603Y104KXJPW1BC; Manufacturer Part Number: 0603YC104KAT2A; Manufacturer: KEMET; Manufacturer Part Number: C0603C104K4RACTU; Manufacturer Part Number: VJ0603Y104KNJAO; Manufacturer: Yageo; Manufacturer Part Number: CC0603KRX7R7BB104; Manufacturer Part Number: C0603C104K4RACTM; Manufacturer Part Number: VJ0603Y104KXJAP; Manufacturer Part Number: VJ0603Y104KXJAC; Manufacturer Part Number: CC0603KPX7R7BB104; Manufacturer Part Number: 0603YC104KAT4A; Manufacturer Part Number: C0603C104K4RAC; Tolerance: Â±10%; Case-EIA: 0603; Case-Metric: 1608; Technology: SMT; Max Thickness: 1 mm; Value: 100nF; Rated Voltage: 16 V
footprint CAPC0603(1608)100_N (Chip Capacitor, Body 1.6x0.8mm, Height 1.0mm, IPC Medium Density)
footprint CAPC0603(1608)100_L (Chip Capacitor, Body 1.6x0.8mm, Height 1.0mm, IPC High Density)
footprint CAPC0603(1608)100_M (Chip Capacitor, Body 1.6x0.8mm, Height 1.0mm, IPC Low Density)
pins: 1, 2
1 alternate drawing of the same symbol

## CMP-1035-02736-1
designator C?, comment 1uF 16V
CAP 1uF 16V ±5% 0603 (1608 Metric) Thickness 1mm SMD; Manufacturer: Kyocera AVX; Manufacturer Part Number: 0603YC105JAT2A; Case-Metric: 1608; Case-EIA: 0603; Tolerance: Â±5%; Technology: SMT; Max Thickness: 1 mm; Rated Voltage: 16 V; Value: 1uF
footprint CAPC0603(1608)100_N (Chip Capacitor, Body 1.6x0.8mm, Height 1.0mm, IPC Medium Density)
footprint CAPC0603(1608)100_L (Chip Capacitor, Body 1.6x0.8mm, Height 1.0mm, IPC High Density)
footprint CAPC0603(1608)100_M (Chip Capacitor, Body 1.6x0.8mm, Height 1.0mm, IPC Low Density)
pins: 1, 2
1 alternate drawing of the same symbol

## CMP-1036-04423-3
designator C?, comment C0805C104M5RACTU
CAP CER 0.1UF 50V X7R 0805; Manufacturer: KEMET; Manufacturer: Kyocera AVX; Manufacturer Part Number: 08055C104MAT2A; Manufacturer Part Number: 08055C104MAT4A; Manufacturer Part Number: C0805C104M5RACTM; Manufacturer: Vishay Vitramon; Manufacturer Part Number: VJ0805V104MXAPW1BC; Manufacturer Part Number: 08055C104MAT7A; Manufacturer: TDK; Manufacturer Part Number: C2012X7R1H104M/0.85; Manufacturer: Yageo; Manufacturer Part Number: CC0805MRY5V9BB104; Manufacturer Part Number: VJ0805V104MXACW1BC; Tolerance: 0.2; Temperature Coefficient: 30ppm/°C; Material: Ceramic; Capacitance: 0.10 μF; Value: 0.10 μF; Temperature: -55°C to +125°C; RoHS: TRUE; Temperature Range Low: -55°C; Device Class L3: Ceramic Capacitors; Manufacturer Part Number: C0805C104M5RACTU; Octopart: https://octopart.com/c0805c104m5ractu-kemet-129379; Ipc Land Pattern Name: CAPC200125X78; Mouser Description: Multilayer Ceramic Capacitors MLCC - SMD/SMT 50volts 0.1uF X7R 20%; Temperature Range High: +125°C; Package: C0805C-DN; Temperature Characteristic: X7R; Automotive: No; ComponentLink2URL: https://content.kemet.com/datasheets/KEM_C1003_C0G_SMD.pdf; Device Class L1: Passive Components; ComponentLink2Description: Datasheet; Device Class L2: Capacitors; Voltage Rating: 50 V; Digikey Description: CAP CER 0.1UF 50V X7R 0805; Lead Free: Yes; Height: 0.88mm; Category: Cap; Manufacturer Part Number: C0805C104M5RAC
footprint FP-C0805C-DN-MFG
footprint FP-C0805C-DN-IPC_C
footprint FP-C0805C-DN-IPC_B
footprint FP-C0805C-DN-IPC_A
pins: 1, 2

## CMP-1036-04893-1
designator C?, comment 4.7uF 16V
CAP 4.7uF 16V -20% to +80% 0805 (2012 Metric) Thickness 1.45mm SMD; Manufacturer: KEMET; Manufacturer Part Number: C0805C475Z4VAC; Manufacturer: Yageo; Manufacturer Part Number: CC0805ZRY5V7BB475; Manufacturer: TDK; Manufacturer Part Number: C2012Y5V1C475Z/1.25; Manufacturer: Vishay Vitramon; Manufacturer Part Number: VJ0805V475ZXJTW1BC; Manufacturer Part Number: C2012Y5V1C475Z/0.85; Manufacturer Part Number: CC0805ZKY5V7BB475; Case-Metric: 2012; Case-EIA: 0805; Max Thickness: 1.45 mm; Value: 4.7uF; Rated Voltage: 16 V; Tolerance: -20% to +80%; Technology: SMT
footprint CAPC0805(2012)145_N (Chip Capacitor, Body 2.0x1.2mm, Height 1.45mm, IPC Medium Density)
footprint CAPC0805(2012)145_M (Chip Capacitor, Body 2.0x1.2mm, Height 1.45mm, IPC Low Density)
footprint CAPC0805(2012)145_L (Chip Capacitor, Body 2.0x1.2mm, Height 1.45mm, IPC High Density)
pins: 1, 2
1 alternate drawing of the same symbol

## CMP-1036-04927-1
designator C?, comment CAP 10uF 16V 0805(2012)
CAP 10uF 16V ±10% 0805 (2012 Metric) Thickness 1.45mm SMD; Manufacturer: Kyocera AVX; Manufacturer Part Number: 0805YD106KAT2A; Manufacturer: KEMET; Manufacturer Part Number: C0805C106K4PACTU; Manufacturer: TDK; Manufacturer Part Number: C2012X5R1C106K/0.85; Manufacturer Part Number: C2012X6S1C106K; Manufacturer Part Number: C0805C106K4PAC; Manufacturer Part Number: 0805YD106KAT4A; Manufacturer Part Number: C2012X5R1C106K/1.25; Case-EIA: 0805; Tolerance: Â±10%; Case-Metric: 2012; Rated Voltage: 16 V; Technology: SMT; Value: 10uF; Max Thickness: 1.45 mm
footprint CAPC0805(2012)145_L (Chip Capacitor, Body 2.0x1.2mm, Height 1.45mm, IPC High Density)
footprint CAPC0805(2012)145_M (Chip Capacitor, Body 2.0x1.2mm, Height 1.45mm, IPC Low Density)
footprint CAPC0805(2012)145_N (Chip Capacitor, Body 2.0x1.2mm, Height 1.45mm, IPC Medium Density)
pins: 1, 2
1 alternate drawing of the same symbol

## CMP-1090-00056-1
designator Q?, comment BSC046N02KS G
N-Channel OptiMOS 2 Power-Transistor, 20 V VDS, 80 A ID, -55 to 150 degC, PG-TDSON-8-1, Reel, Green; Manufacturer: Infineon; IDpuls (max): 200Â A; VGS(th) (max): 1.2Â V; ID (max): 80Â A; RDS (on) (max) (@4.5V): 4.6Â mOhm; VGS(th) (min): 0.7Â V; RthJA (max): 62 K/W; QG: 21Â nC; RthJC (max): 2.6Â K/W; Polarity: N; VDS (max): 20Â V; Green: TRUE; Ptot (max): 48Â W; Halogen-free: TRUE; PackageDescription: 8-Pin Plastic (Green) Thin Dual Small Outline Non-Leaded Package, 5.15 x 5.9 mm Body, 1.27 mm Pitch; ComponentLink1URL: http://www.infineon.com/; PackageReference: PG-TDSON-8-1; PartNumber: BSC046N02KS G; ComponentLink3Description: Package Specification; Mounting Technology: Surface Mount; ComponentLink3URL: http://www.infineon.com/cms/packages/SMD_-_Surface_Mounted_Devices/P-PG-TDSON/P-PG-TDSON-08-01x_2x_3.html?__locale=en; ComponentLink1Description: Manufacturer URL; ComponentLink2Description: Datasheet; DatasheetVersion: Rev. 1.06; Packing: Reel; Rth: 2.6Â K/W; ComponentLink2URL: http://www.infineon.com/dgdl/BSC046N02KS+G+Rev16.pdf?folderId=db3a3043163797a6011637c252b10018&fileId=db3a3043163797a6011637c34414001c; Manufacturer Part Number: BSC046N02KSG
footprint INF-PG-TDSON-8-1_V (TDSON, 8-Leads, Body 6.15x5.15mm, Pitch 1.27mm)
pins: 1 SOURCE, 2 SOURCE, 3 SOURCE, 4 GATE, 5 DRAIN, 6 DRAIN, 7 DRAIN, 8 DRAIN
text: 5, 6, 7, 8; 1, 2, 3

## CMP-1659-00009-4
designator R?, comment RC0603FR-071KL
Chip Resistor, 1 KOhm, +/-1%, 0.1 W, -55 to 155 degC, 0603 (1608 Metric), RoHS, Tape and Reel; Manufacturer: Yageo; Voltage Rating: 50 V; ComponentLink2URL: http://www.yageo.com/documents/recent/PYu-RC_Group_51_RoHS_L_04.pdf; Max Operating Temperature: 155 degC; PackageDescription: 2-Pin Surface Mount Device, Body 1.6 x 0.8 mm; Packaging: Tape and Reel; ComponentLink3Description: Package Specification; REACH SVHC: No SVHC; Mount: Surface Mount; ComponentLink2Description: Datasheet; Length: 1.6 mm; PackageReference: 0603; Height: 0.45 mm; DatasheetVersion: Rev. 4, 02/2016; Min Operating Temperature: -55 degC; ComponentLink1Description: Manufacturer URL; Package Quantity: 200; RoHSCompliant: true; ComponentLink3URL: http://www.farnell.com/datasheets/443971.pdf; Pins: 2; Mounting Technology: Surface Mount; ComponentLink1URL: http://www.yageo.com/; Manufacturer Part Number: RC0603FR-071KL
footprint RESC1608X55X25NL10T15 (Chip Resistor, 2-Leads, Body 1.70x0.90mm, IPC Medium Density)
footprint RESC1608X55X25ML10T15 (Chip Resistor, 2-Leads, Body 1.70x0.90mm, IPC Low Density)
footprint RESC1608X55X25LL10T15 (Chip Resistor, 2-Leads, Body 1.70x0.90mm, IPC High Density)
pins: 1, 2

## CMP-1659-00056-1
designator R?, comment RC0603FR-071ML
Chip Resistor, 1 MOhm, +/- 1%, 100 mW, -55 to 155 degC, 0603 (1608 Metric), RoHS, Tape and Reel; Manufacturer: Yageo; Voltage Rating (DC): 25 V; Tolerance: 20%; Case\Package: Radial; Capacitance: 1 mF; Min Operating Temperature: -40 degC; PackageDescription: 2-Pin Surface Mount Device, Body 1.6 x 0.8 mm; ComponentLink1Description: Manufacturer URL; Radiation Hardening: No; DatasheetVersion: Rev. 4, 02/2016; REACH SVHC: No SVHC; Length: 20 mm; Max Operating Temperature: 85 degC; Diameter: 10 mm; Packaging: Bulk; Package Quantity: 200; PackageReference: 0603; Mount: Through Hole; ComponentLink1URL: http://www.yageo.com/; ComponentLink2URL: http://www.yageo.com/documents/recent/PYu-RC_Group_51_RoHS_L_04.pdf; ComponentLink2Description: Datasheet; Width: 0 inch; Lead Pitch: 5 mm; RoHSCompliant: true; Voltage Rating: 25 V; Height: 20 mm; Manufacturer Part Number: RC0603FR-071ML
footprint RESC1608X55X25LL10T15 (Chip Resistor, 2-Leads, Body 1.70x0.90mm, IPC High Density)
footprint RESC1608X55X25ML10T15 (Chip Resistor, 2-Leads, Body 1.70x0.90mm, IPC Low Density)
footprint RESC1608X55X25NL10T15 (Chip Resistor, 2-Leads, Body 1.70x0.90mm, IPC Medium Density)
pins: 1, 2

## CMP-1674-00001-5
designator D?, comment LTST-C170CKT  (value not drawn)
LED Uni-Color Red, 100 mW, 200 mA, -55 to 85 degC, 2-Pin SMD, RoHS, Tape and Reel; Manufacturer: Lite-On; Manufacturer: Vishay Lite-On; PackageReference: C170CKT; ComponentLink1Description: Manufacturer URL; ComponentLink1URL: http://www.us.liteon.com/; Package Quantity: 3000; Packaging: Tape and Reel; Pins: 2; ComponentLink2URL: http://media.digikey.com/pdf/Data%20Sheets/Lite-On%20PDFs/LTST-C170CKT.pdf; Max Operating Temperature: 85 degC; Min Operating Temperature: -55 degC; Mounting Technology: Surface Mount; Mount: Surface Mount; Length: 2 mm; ComponentLink2Description: Datasheet; DatasheetVersion: 03/2003; Height: 1.1 mm; PackageDescription: 2-Pin Surface Mount Device, Body 2 x 1.25 mm; RoHSCompliant: true; Colour: Red; Manufacturer Part Number: LTST-C170CKT
footprint LTST-C170CKT_V (SMD, 2-Leads, Body 2x1.25mm)
pins: 1 A, 2 K

## CMP-1674-00002-5
designator D?, comment LTST-C170GKT  (value not drawn)
LED Uni-Color Green, 100 mW, 120 mA, -55 to 85 degC, 2-Pin SMD, RoHS, Tape and Reel; Manufacturer: Lite-On; Manufacturer: Vishay Lite-On; PackageReference: C170GKT; ComponentLink1Description: Manufacturer URL; ComponentLink1URL: http://www.us.liteon.com/; Height: 1.1 mm; PackageDescription: 2-Pin Surface Mount Device, Body 2 x 1.25 mm; RoHSCompliant: true; Package Quantity: 1; Packaging: Tape and Reel; Mount: Surface Mount; Min Operating Temperature: -55 degC; DatasheetVersion: 03/2003; Max Operating Temperature: 85 degC; Pins: 2; Mounting Technology: Surface Mount; Length: 2 mm; Colour: Green; ComponentLink2URL: http://media.digikey.com/pdf/Data%20Sheets/Lite-On%20PDFs/LTST-C170GKT.pdf; ComponentLink2Description: Datasheet; Manufacturer Part Number: LTST-C170GKT
footprint LTST-C170GKT_V (SMD, 2-Leads, Body 2x1.25mm)
pins: 1 A, 2 K

## CMP-2000-03004-1
designator R?, comment CRCW06031K69FKEA
RES SMD 1.69K OHM 1% 1/10W 0603; Manufacturer: Vishay Dale; Manufacturer: Vishay; Part Number: CRCW06031K69FKEA; Manufacturer Part Number: CRCW06031K69FKEA
footprint RESC1609X50X30ML10T20 (Chip Resistor, 2-Leads, Body 1.55x0.85mm, IPC Low Density)
footprint RESC1609X50X30LL10T20 (Chip Resistor, 2-Leads, Body 1.55x0.85mm, IPC High Density)
footprint RESC1609X50X30NL10T20 (Chip Resistor, 2-Leads, Body 1.55x0.85mm, IPC Medium Density)
pins: 1, 2
1 alternate drawing of the same symbol

## CMP-2000-03649-1
designator R?, comment CRCW0603976RFKEA
976 Ohms ±1% 0.1W, 1/10W Chip Resistor 0603 (1608 Metric) Automotive AEC-Q200 Thick Film; Manufacturer: Vishay Dale; Manufacturer: Vishay; Part Number: CRCW0603976RFKEA; Manufacturer Part Number: CRCW0603976RFKEA
footprint RESC1609X50X30LL10T20 (Chip Resistor, 2-Leads, Body 1.55x0.85mm, IPC High Density)
footprint RESC1609X50X30NL10T20 (Chip Resistor, 2-Leads, Body 1.55x0.85mm, IPC Medium Density)
footprint RESC1609X50X30ML10T20 (Chip Resistor, 2-Leads, Body 1.55x0.85mm, IPC Low Density)
pins: 1, 2
1 alternate drawing of the same symbol

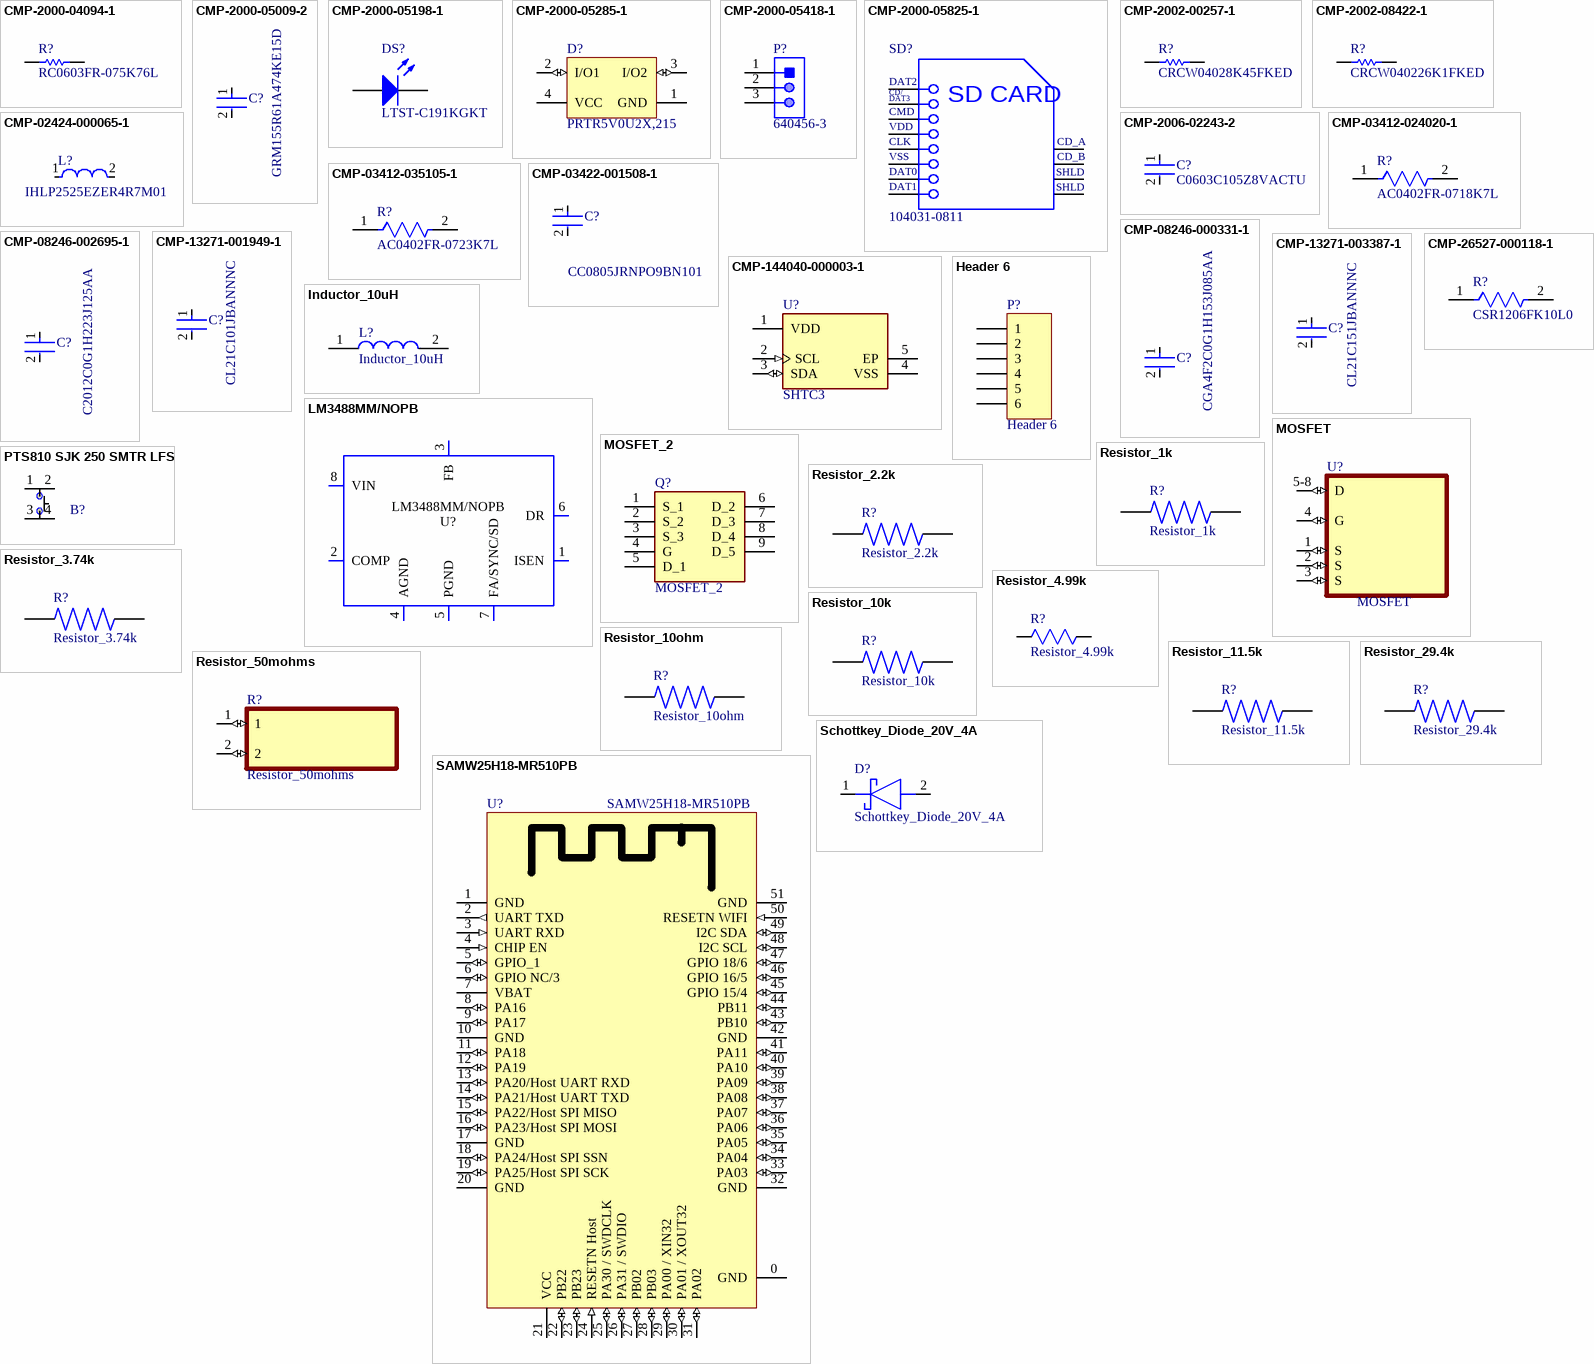
[diagram p1: symbols CMP-2000-04094-1 to Schottkey_Diode_20V_4A]

## CMP-2000-04094-1
designator R?, comment RC0603FR-075K76L
RES 5.76K OHM 1% 1/10W 0603; Manufacturer: Yageo; Part Number: RC0603FR-075K76L; Manufacturer Part Number: RC0603FR-075K76L
footprint RESC1608X55X25ML10T15 (Chip Resistor, 2-Leads, Body 1.60x0.80mm, IPC Low Density)
footprint RESC1608X55X25NL10T15 (Chip Resistor, 2-Leads, Body 1.60x0.80mm, IPC Medium Density)
footprint RESC1608X55X25LL10T15 (Chip Resistor, 2-Leads, Body 1.60x0.80mm, IPC High Density)
pins: 1, 2
1 alternate drawing of the same symbol

## CMP-2000-05009-2
designator C?, comment GRM155R61A474KE15D
CAP CER 0.47UF 10V X5R 0402; Manufacturer: Murata Electronics North America; Manufacturer: Murata; Temperature Coefficient: 15%; Material: Ceramic; Tolerance: 10%; Device Class L3: Ceramic Capacitors; ComponentLink2Description: Datasheet; ComponentLink2URL: https://search.murata.co.jp/Ceramy/image/img/A01X/G101/ENG/GRM155R61A474KE15-01A.pdf; Package: GRM15-0.1; Voltage Rating: 10V; Capacitance: 0.47uF; Category: Cap; Manufacturer Part Number: GRM155R61A474KE15D; Temperature Range High: +85°C; Temperature Range Low: -55°C; Height: 0.55mm; Device Class L2: Capacitors; Lead Free: Yes; Mouser Description: Multilayer Ceramic Capacitors MLCC - SMD/SMT 0402 0.47uF 10volts X5R 10%; Ipc Land Pattern Name: CAPC10050X50; Temperature Characteristic: X5R; Digikey Description: CAP CER 0.47UF 10V X5R 0402; Value: 0.47uF; Octopart: https://octopart.com/grm155r61a474ke15d-murata-196883; Automotive: No; Device Class L1: Passive Components; Temperature: -55°C to +85°C; RoHS: TRUE
footprint FP-GRM15-0_1-MFG
footprint FP-GRM15-0_1-IPC_C
footprint FP-GRM15-0_1-IPC_B
footprint FP-GRM15-0_1-IPC_A
pins: 1, 2